# Altium integrated library NSC Interface.IntLib: 1288 symbols (part 18 of 45)
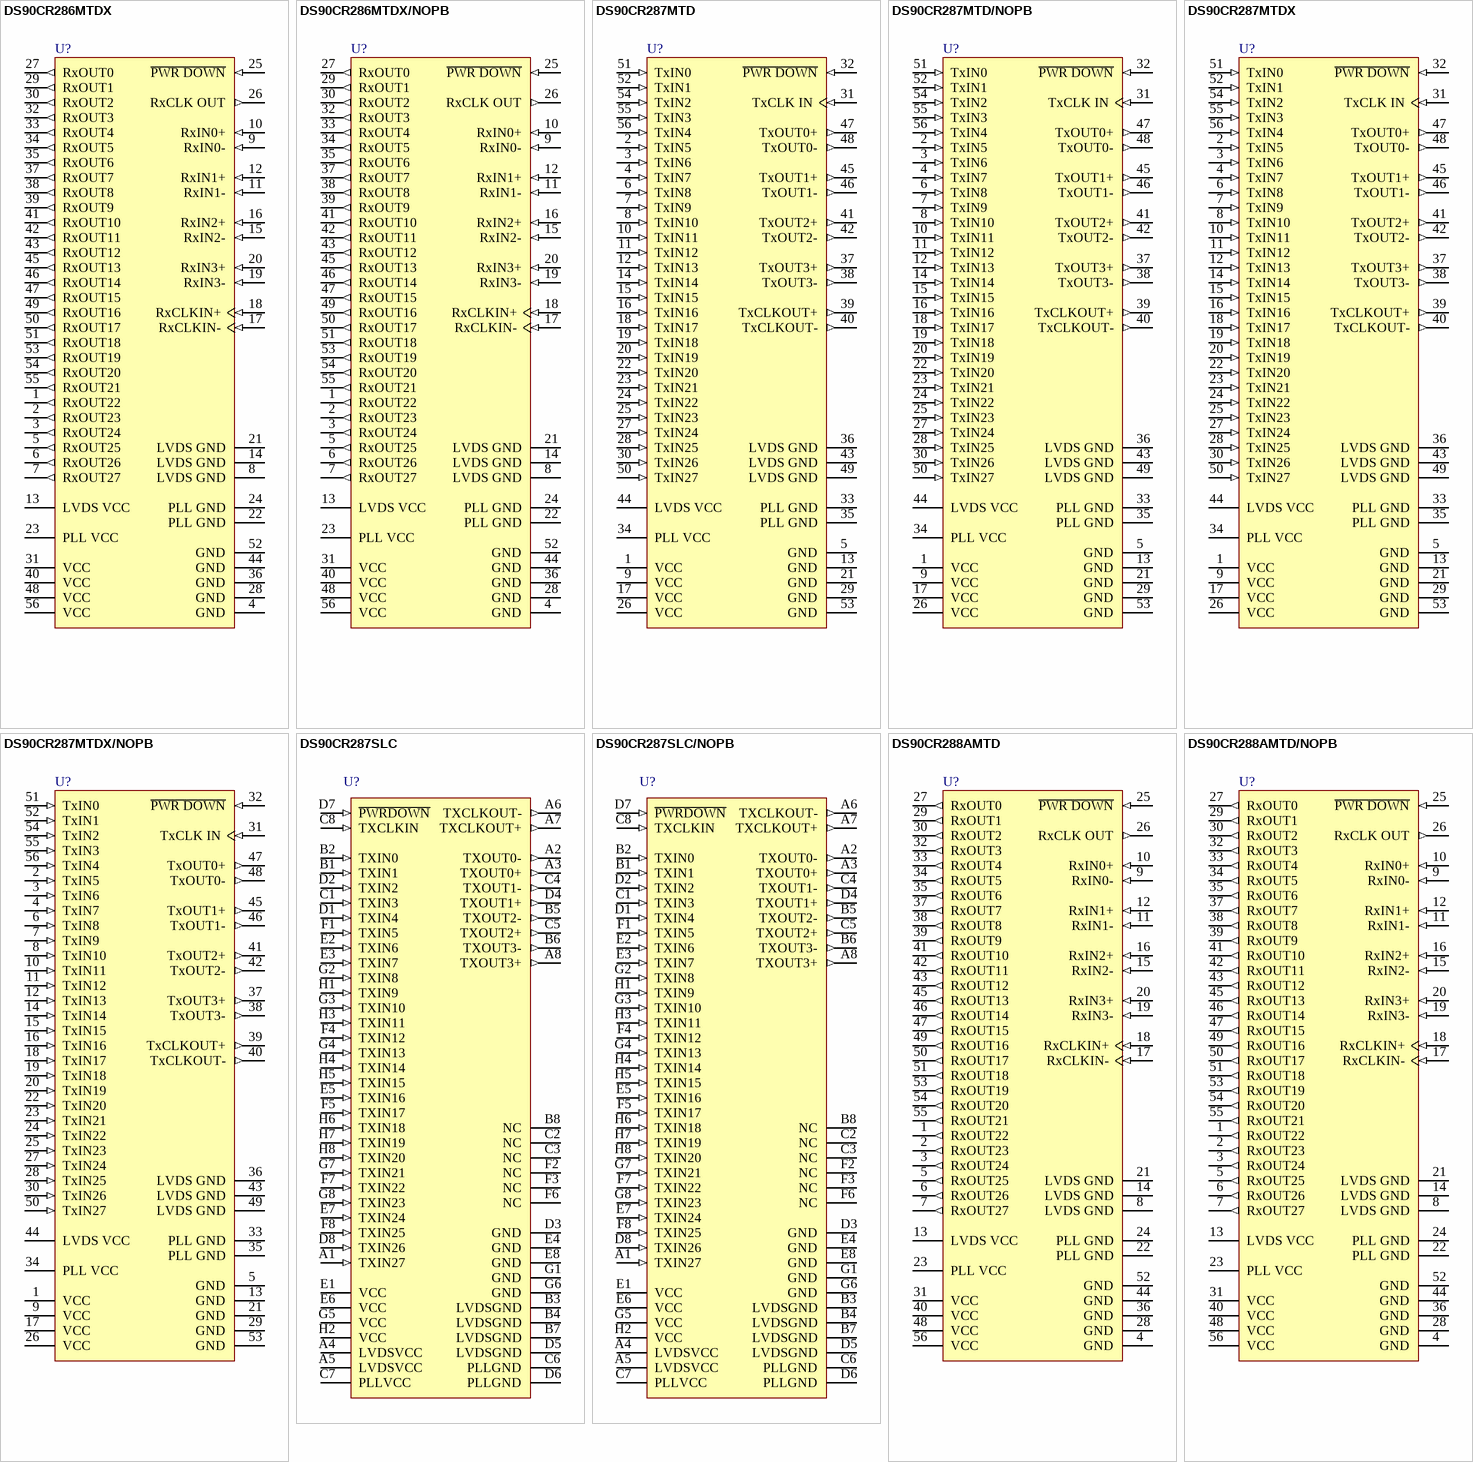
[diagram p129: symbols DS90CR286MTDX to DS90CR288AMTD/NOPB]

## DS90CR287SLC
designator U?
+3.3V Rising Edge Data Strobe LVDS 28-Bit Channel Link Transmitter - 85 MHz, 64-pin FBGA; PartNumber: DS90CR287SLC; Manufacturer: National Semiconductor; PackageTopMarking: NS2ZXYTTE#*DS90CR287*SLC*BBBBB; PowerWise: N; CompType: Interface IC; Published: 4-Dec-2008; DatasheetVersion: Jul-2004; PackageVersion: revC, Jan, 2003; PackageReference: SLC64A; Publisher: Altium Limited; PackageDescription: FBGA, Plastic, Laminated, 8 x 8 x 1.4mm Body, 64 Ball, 0.8mm Pitch; RoHS: N; PinCount: 64; ComponentLink1Description: DS90CR287 Datasheet; ComponentLink1URL: http://www.national.com/ds/DS/DS90CR287.pdf; ComponentLink2Description: DS90CR287 Web Page; ComponentLink2URL: http://www.national.com/pf/DS/DS90CR287.html; ComponentLink3Description: SLC64A Package Page; ComponentLink3URL: http://www.national.com/packaging/folders/slc64a.html
footprint SLC64A (BGA, 64-Leads, Body 8x8mm, Pitch 0.8mm)
pins: A1 TXIN27 (in), A2 TXOUT0- (out), A3 TXOUT0+ (out), A4 LVDSVCC (power), A5 LVDSVCC (power), A6 TXCLKOUT- (out), A7 TXCLKOUT+ (out), A8 TXOUT3+ (out), B1 TXIN1 (in), B2 TXIN0 (in), B3 LVDSGND (power), B4 LVDSGND (power), B5 TXOUT2- (out), B6 TXOUT3- (out), B7 LVDSGND (power), B8 NC, C1 TXIN3 (in), C2 NC, C3 NC, C4 TXOUT1- (out), C5 TXOUT2+ (out), C6 PLLGND (power), C7 PLLVCC (power), C8 TXCLKIN (in), D1 TXIN4 (in), D2 TXIN2 (in), D3 GND (power), D4 TXOUT1+ (out), D5 LVDSGND (power), D6 PLLGND (power), D7 ~{PWRDOWN} (in), D8 TXIN26 (in), E1 VCC (power), E2 TXIN6 (in), E3 TXIN7 (in), E4 GND (power), E5 TXIN16 (in), E6 VCC (power), E7 TXIN24 (in), E8 GND (power), F1 TXIN5 (in), F2 NC, F3 NC, F4 TXIN12 (in), F5 TXIN17 (in), F6 NC, F7 TXIN22 (in), F8 TXIN25 (in), G1 GND (power), G2 TXIN8 (in), G3 TXIN10 (in), G4 TXIN13 (in), G5 VCC (power), G6 GND (power), G7 TXIN21 (in), G8 TXIN23 (in), H1 TXIN9 (in), H2 VCC (power), H3 TXIN11 (in), H4 TXIN14 (in), H5 TXIN15 (in), H6 TXIN18 (in), H7 TXIN19 (in), H8 TXIN20 (in)

## DS90CR287SLC/NOPB
designator U?
+3.3V Rising Edge Data Strobe LVDS 28-Bit Channel Link Transmitter - 85 MHz, 64 pin FBGA; PartNumber: DS90CR287SLC/NOPB; Manufacturer: National Semiconductor; PackageTopMarking: NS2ZXYTTE#*DS90CR287*SLC*BBBBB; PowerWise: N; CompType: Interface IC; Published: 16-Nov-2010; DatasheetVersion: Jul-2004; PackageVersion: revC, Jan, 2003; PackageReference: SLC64A; Publisher: Altium Limited; PackageDescription: FBGA, Plastic, Laminated, 8 x 8 x 1.4mm Body, 64 Ball, 0.8mm Pitch; Supplier 1: Digi-Key; Supplier Part Number 1: DS90CR287SLC-ND; RoHS: Y; PinCount: 64; ComponentLink1Description: DS90CR287 Datasheet; ComponentLink1URL: http://www.national.com/ds/DS/DS90CR287.pdf; ComponentLink2Description: DS90CR287 Web Page; ComponentLink2URL: http://www.national.com/pf/DS/DS90CR287.html; ComponentLink3Description: SLC64A Package Page; ComponentLink3URL: http://www.national.com/packaging/folders/slc64a.html
footprint SLC64A (BGA, 64-Leads, Body 8x8mm, Pitch 0.8mm)
pins: A1 TXIN27 (in), A2 TXOUT0- (out), A3 TXOUT0+ (out), A4 LVDSVCC (power), A5 LVDSVCC (power), A6 TXCLKOUT- (out), A7 TXCLKOUT+ (out), A8 TXOUT3+ (out), B1 TXIN1 (in), B2 TXIN0 (in), B3 LVDSGND (power), B4 LVDSGND (power), B5 TXOUT2- (out), B6 TXOUT3- (out), B7 LVDSGND (power), B8 NC, C1 TXIN3 (in), C2 NC, C3 NC, C4 TXOUT1- (out), C5 TXOUT2+ (out), C6 PLLGND (power), C7 PLLVCC (power), C8 TXCLKIN (in), D1 TXIN4 (in), D2 TXIN2 (in), D3 GND (power), D4 TXOUT1+ (out), D5 LVDSGND (power), D6 PLLGND (power), D7 ~{PWRDOWN} (in), D8 TXIN26 (in), E1 VCC (power), E2 TXIN6 (in), E3 TXIN7 (in), E4 GND (power), E5 TXIN16 (in), E6 VCC (power), E7 TXIN24 (in), E8 GND (power), F1 TXIN5 (in), F2 NC, F3 NC, F4 TXIN12 (in), F5 TXIN17 (in), F6 NC, F7 TXIN22 (in), F8 TXIN25 (in), G1 GND (power), G2 TXIN8 (in), G3 TXIN10 (in), G4 TXIN13 (in), G5 VCC (power), G6 GND (power), G7 TXIN21 (in), G8 TXIN23 (in), H1 TXIN9 (in), H2 VCC (power), H3 TXIN11 (in), H4 TXIN14 (in), H5 TXIN15 (in), H6 TXIN18 (in), H7 TXIN19 (in), H8 TXIN20 (in)

## DS90CR288AMTD
designator U?
+3.3V Rising Edge Data Strobe LVDS 28-Bit Channel Link Receiver - 85 MHz, 56-pin TSSOP; PartNumber: DS90CR288AMTD; Manufacturer: National Semiconductor; PackageTopMarking: NSUZXYTTE#*DS90CR288AMTD*BBBBB; PowerWise: N; CompType: Interface IC; Published: 4-Dec-2008; DatasheetVersion: Jul-2004; PackageVersion: revD, Apr-2003; PackageReference: MTD56; Publisher: Altium Limited; PackageDescription: Molded TSSOP, Jedec, 14 x 6.1 x 0.9mm Body, 56 Lead, 0.50mm Pitch; Supplier 1: Farnell; Supplier Part Number 1: 7613702; RoHS: N; PinCount: 56; Code_IPC: TSSOP50P810-56; ComponentLink1Description: DS90CR288A Datasheet; ComponentLink1URL: http://www.national.com/ds/DS/DS90CR288A.pdf; ComponentLink2Description: DS90CR288A Web Page; ComponentLink2URL: http://www.national.com/pf/DS/DS90CR288A.html; ComponentLink3Description: MTD56 Package Page; ComponentLink3URL: http://www.national.com/packaging/folders/mtd56.html
footprint MTD56_N (TSSOP, 56-Leads, Body 14x6.1mm, Pitch 0.5mm, IPC Medium Density)
footprint MTD56_L (TSSOP, 56-Leads, Body 14x6.1mm, Pitch 0.5mm, IPC High Density)
footprint MTD56_M (TSSOP, 56-Leads, Body 14x6.1mm, Pitch 0.5mm, IPC Low Density)
pins: 1 RxOUT22 (out), 2 RxOUT23 (out), 3 RxOUT24 (out), 4 GND (power), 5 RxOUT25 (out), 6 RxOUT26 (out), 7 RxOUT27 (out), 8 LVDS GND (power), 9 RxIN0- (in), 10 RxIN0+ (in), 11 RxIN1- (in), 12 RxIN1+ (in), 13 LVDS VCC (power), 14 LVDS GND (power), 15 RxIN2- (in), 16 RxIN2+ (in), 17 RxCLKIN- (in), 18 RxCLKIN+ (in), 19 RxIN3- (in), 20 RxIN3+ (in), 21 LVDS GND (power), 22 PLL GND (power), 23 PLL VCC (power), 24 PLL GND (power), 25 ~{PWR DOWN} (in), 26 RxCLK OUT (out), 27 RxOUT0 (out), 28 GND (power), 29 RxOUT1 (out), 30 RxOUT2 (out), 31 VCC (power), 32 RxOUT3 (out), 33 RxOUT4 (out), 34 RxOUT5 (out), 35 RxOUT6 (out), 36 GND (power), 37 RxOUT7 (out), 38 RxOUT8 (out), 39 RxOUT9 (out), 40 VCC (power), 41 RxOUT10 (out), 42 RxOUT11 (out), 43 RxOUT12 (out), 44 GND (power), 45 RxOUT13 (out), 46 RxOUT14 (out), 47 RxOUT15 (out), 48 VCC (power), 49 RxOUT16 (out), 50 RxOUT17 (out), 51 RxOUT18 (out), 52 GND (power), 53 RxOUT19 (out), 54 RxOUT20 (out), 55 RxOUT21 (out), 56 VCC (power)

## DS90CR288AMTD/NOPB
designator U?
+3.3V Rising Edge Data Strobe LVDS 28-Bit Channel Link Receiver - 85 MHz, 56-pin TSSOP, Pb-Free; PartNumber: DS90CR288AMTD/NOPB; Manufacturer: National Semiconductor; PackageTopMarking: NSUZXYTTE#*DS90CR288AMTD*BBBBB; PowerWise: N; CompType: Interface IC; Published: 1-Mar-2010; DatasheetVersion: Jul-2004; PackageVersion: revD, Apr-2003; PackageReference: MTD56; Publisher: Altium Limited; PackageDescription: Molded TSSOP, Jedec, 14 x 6.1 x 0.9mm Body, 56 Lead, 0.50mm Pitch; Supplier 1: Digi-Key; Supplier Part Number 1: DS90CR288AMTD-ND; Supplier 2: Farnell; Supplier Part Number 2: 1685539; RoHS: Y; PinCount: 56; Code_IPC: TSSOP50P810-56; ComponentLink1Description: DS90CR288A Datasheet; ComponentLink1URL: http://www.national.com/ds/DS/DS90CR288A.pdf; ComponentLink2Description: DS90CR288A Web Page; ComponentLink2URL: http://www.national.com/pf/DS/DS90CR288A.html; ComponentLink3Description: MTD56 Package Page; ComponentLink3URL: http://www.national.com/packaging/folders/mtd56.html
footprint MTD56_N (TSSOP, 56-Leads, Body 14x6.1mm, Pitch 0.5mm, IPC Medium Density)
footprint MTD56_L (TSSOP, 56-Leads, Body 14x6.1mm, Pitch 0.5mm, IPC High Density)
footprint MTD56_M (TSSOP, 56-Leads, Body 14x6.1mm, Pitch 0.5mm, IPC Low Density)
pins: 1 RxOUT22 (out), 2 RxOUT23 (out), 3 RxOUT24 (out), 4 GND (power), 5 RxOUT25 (out), 6 RxOUT26 (out), 7 RxOUT27 (out), 8 LVDS GND (power), 9 RxIN0- (in), 10 RxIN0+ (in), 11 RxIN1- (in), 12 RxIN1+ (in), 13 LVDS VCC (power), 14 LVDS GND (power), 15 RxIN2- (in), 16 RxIN2+ (in), 17 RxCLKIN- (in), 18 RxCLKIN+ (in), 19 RxIN3- (in), 20 RxIN3+ (in), 21 LVDS GND (power), 22 PLL GND (power), 23 PLL VCC (power), 24 PLL GND (power), 25 ~{PWR DOWN} (in), 26 RxCLK OUT (out), 27 RxOUT0 (out), 28 GND (power), 29 RxOUT1 (out), 30 RxOUT2 (out), 31 VCC (power), 32 RxOUT3 (out), 33 RxOUT4 (out), 34 RxOUT5 (out), 35 RxOUT6 (out), 36 GND (power), 37 RxOUT7 (out), 38 RxOUT8 (out), 39 RxOUT9 (out), 40 VCC (power), 41 RxOUT10 (out), 42 RxOUT11 (out), 43 RxOUT12 (out), 44 GND (power), 45 RxOUT13 (out), 46 RxOUT14 (out), 47 RxOUT15 (out), 48 VCC (power), 49 RxOUT16 (out), 50 RxOUT17 (out), 51 RxOUT18 (out), 52 GND (power), 53 RxOUT19 (out), 54 RxOUT20 (out), 55 RxOUT21 (out), 56 VCC (power)

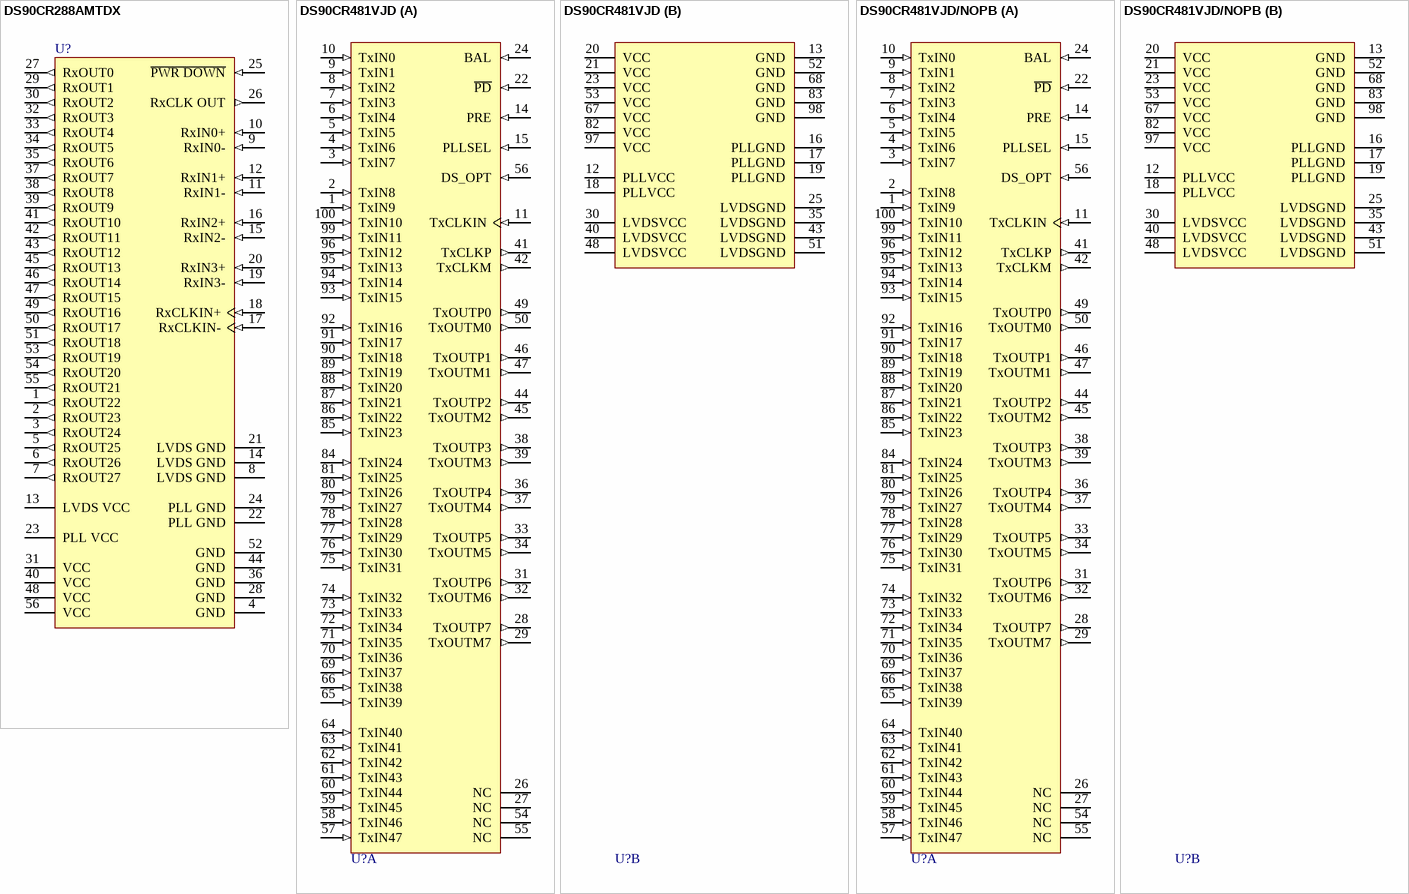
[diagram p45: symbols DS90CR288AMTDX to DS90CR481VJD/NOPB]

## DS90CR288AMTDX
designator U?
+3.3V Rising Edge Data Strobe LVDS 28-Bit Channel Link Receiver - 85 MHz, 56-pin TSSOP; PartNumber: DS90CR288AMTDX; Manufacturer: National Semiconductor; PackageTopMarking: NSUZXYTTE#*DS90CR288AMTD*BBBBB; PowerWise: N; CompType: Interface IC; Published: 1-Mar-2010; DatasheetVersion: Jul-2004; PackageVersion: revD, Apr-2003; PackageReference: MTD56; Publisher: Altium Limited; PackageDescription: Molded TSSOP, Jedec, 14 x 6.1 x 0.9mm Body, 56 Lead, 0.50mm Pitch; RoHS: N; PinCount: 56; Code_IPC: TSSOP50P810-56; ComponentLink1Description: DS90CR288A Datasheet; ComponentLink1URL: http://www.national.com/ds/DS/DS90CR288A.pdf; ComponentLink2Description: DS90CR288A Web Page; ComponentLink2URL: http://www.national.com/pf/DS/DS90CR288A.html; ComponentLink3Description: MTD56 Package Page; ComponentLink3URL: http://www.national.com/packaging/folders/mtd56.html
footprint MTD56_N (TSSOP, 56-Leads, Body 14x6.1mm, Pitch 0.5mm, IPC Medium Density)
footprint MTD56_L (TSSOP, 56-Leads, Body 14x6.1mm, Pitch 0.5mm, IPC High Density)
footprint MTD56_M (TSSOP, 56-Leads, Body 14x6.1mm, Pitch 0.5mm, IPC Low Density)
pins: 1 RxOUT22 (out), 2 RxOUT23 (out), 3 RxOUT24 (out), 4 GND (power), 5 RxOUT25 (out), 6 RxOUT26 (out), 7 RxOUT27 (out), 8 LVDS GND (power), 9 RxIN0- (in), 10 RxIN0+ (in), 11 RxIN1- (in), 12 RxIN1+ (in), 13 LVDS VCC (power), 14 LVDS GND (power), 15 RxIN2- (in), 16 RxIN2+ (in), 17 RxCLKIN- (in), 18 RxCLKIN+ (in), 19 RxIN3- (in), 20 RxIN3+ (in), 21 LVDS GND (power), 22 PLL GND (power), 23 PLL VCC (power), 24 PLL GND (power), 25 ~{PWR DOWN} (in), 26 RxCLK OUT (out), 27 RxOUT0 (out), 28 GND (power), 29 RxOUT1 (out), 30 RxOUT2 (out), 31 VCC (power), 32 RxOUT3 (out), 33 RxOUT4 (out), 34 RxOUT5 (out), 35 RxOUT6 (out), 36 GND (power), 37 RxOUT7 (out), 38 RxOUT8 (out), 39 RxOUT9 (out), 40 VCC (power), 41 RxOUT10 (out), 42 RxOUT11 (out), 43 RxOUT12 (out), 44 GND (power), 45 RxOUT13 (out), 46 RxOUT14 (out), 47 RxOUT15 (out), 48 VCC (power), 49 RxOUT16 (out), 50 RxOUT17 (out), 51 RxOUT18 (out), 52 GND (power), 53 RxOUT19 (out), 54 RxOUT20 (out), 55 RxOUT21 (out), 56 VCC (power)

## DS90CR481VJD
designator U?
48-Bit LVDS Channel Link Serializer - 65 - 112 MHz, 100-pin TQFP; PartNumber: DS90CR481VJD; Manufacturer: National Semiconductor; PackageTopMarking: NS2ZXYYTTE#*DS90CR481VJD*BBBBB; PowerWise: N; CompType: Interface IC; Published: 4-Dec-2008; DatasheetVersion: Jan-2006; PackageVersion: revC, May-2004; PackageReference: VJD100A; Publisher: Altium Limited; PackageDescription: TQFP, Jedec, Metric, 14 x 14 x 1.0mm, 100 Lead; RoHS: N; PinCount: 100; Code_JEDEC: MS-026-AED; ComponentLink1Description: DS90CR481 Datasheet; ComponentLink1URL: http://www.national.com/ds/DS/DS90CR481.pdf; ComponentLink2Description: DS90CR481 Web Page; ComponentLink2URL: http://www.national.com/pf/DS/DS90CR481.html; ComponentLink3Description: VJD100A Package Page; ComponentLink3URL: http://www.national.com/packaging/folders/vjd100a.html
footprint VJD100A_N (Thin QFP, 100-Leads, Body 14x14mm, Pitch 0.5mm, IPC Medium Density)
footprint VJD100A_L (Thin QFP, 100-Leads, Body 14x14mm, Pitch 0.5mm, IPC High Density)
footprint VJD100A_M (Thin QFP, 100-Leads, Body 14x14mm, Pitch 0.5mm, IPC Low Density)
part A pins: 1 TxIN9 (in), 2 TxIN8 (in), 3 TxIN7 (in), 4 TxIN6 (in), 5 TxIN5 (in), 6 TxIN4 (in), 7 TxIN3 (in), 8 TxIN2 (in), 9 TxIN1 (in), 10 TxIN0 (in), 11 TxCLKIN (in), 14 PRE (in), 15 PLLSEL (in), 22 ~{PD} (in), 24 BAL (in), 26 NC, 27 NC, 28 TxOUTP7 (out), 29 TxOUTM7 (out), 31 TxOUTP6 (out), 32 TxOUTM6 (out), 33 TxOUTP5 (out), 34 TxOUTM5 (out), 36 TxOUTP4 (out), 37 TxOUTM4 (out), 38 TxOUTP3 (out), 39 TxOUTM3 (out), 41 TxCLKP (out), 42 TxCLKM (out), 44 TxOUTP2 (out), 45 TxOUTM2 (out), 46 TxOUTP1 (out), 47 TxOUTM1 (out), 49 TxOUTP0 (out), 50 TxOUTM0 (out), 54 NC, 55 NC, 56 DS_OPT (in), 57 TxIN47 (in), 58 TxIN46 (in), 59 TxIN45 (in), 60 TxIN44 (in), 61 TxIN43 (in), 62 TxIN42 (in), 63 TxIN41 (in), 64 TxIN40 (in), 65 TxIN39 (in), 66 TxIN38 (in), 69 TxIN37 (in), 70 TxIN36 (in), 71 TxIN35 (in), 72 TxIN34 (in), 73 TxIN33 (in), 74 TxIN32 (in), 75 TxIN31 (in), 76 TxIN30 (in), 77 TxIN29 (in), 78 TxIN28 (in), 79 TxIN27 (in), 80 TxIN26 (in), 81 TxIN25 (in), 84 TxIN24 (in), 85 TxIN23 (in), 86 TxIN22 (in), 87 TxIN21 (in), 88 TxIN20 (in), 89 TxIN19 (in), 90 TxIN18 (in), 91 TxIN17 (in), 92 TxIN16 (in), 93 TxIN15 (in), 94 TxIN14 (in), 95 TxIN13 (in), 96 TxIN12 (in), 99 TxIN11 (in), 100 TxIN10 (in)
part B pins: 12 PLLVCC (power), 13 GND (power), 16 PLLGND (power), 17 PLLGND (power), 18 PLLVCC (power), 19 PLLGND (power), 20 VCC (power), 21 VCC (power), 23 VCC (power), 25 LVDSGND (power), 30 LVDSVCC (power), 35 LVDSGND (power), 40 LVDSVCC (power), 43 LVDSGND (power), 48 LVDSVCC (power), 51 LVDSGND (power), 52 GND (power), 53 VCC (power), 67 VCC (power), 68 GND (power), 82 VCC (power), 83 GND (power), 97 VCC (power), 98 GND (power)

## DS90CR481VJD/NOPB
designator U?
48-Bit LVDS Channel Link Serializer - 65 - 112 MHz, 100-pin TQFP, Pb-Free; PartNumber: DS90CR481VJD/NOPB; Manufacturer: National Semiconductor; PackageTopMarking: NS2ZXYYTTE#*DS90CR481VJD*BBBBB; PowerWise: N; CompType: Interface IC; Published: 1-Mar-2010; DatasheetVersion: Jan-2006; PackageVersion: revC, May-2004; PackageReference: VJD100A; Publisher: Altium Limited; PackageDescription: TQFP, Jedec, Metric, 14 x 14 x 1.0mm, 100 Lead; Supplier 1: Digi-Key; Supplier Part Number 1: DS90CR481VJD-ND; RoHS: Y; PinCount: 100; Code_JEDEC: MS-026-AED; ComponentLink1Description: DS90CR481 Datasheet; ComponentLink1URL: http://www.national.com/ds/DS/DS90CR481.pdf; ComponentLink2Description: DS90CR481 Web Page; ComponentLink2URL: http://www.national.com/pf/DS/DS90CR481.html; ComponentLink3Description: VJD100A Package Page; ComponentLink3URL: http://www.national.com/packaging/folders/vjd100a.html
footprint VJD100A_N (Thin QFP, 100-Leads, Body 14x14mm, Pitch 0.5mm, IPC Medium Density)
footprint VJD100A_L (Thin QFP, 100-Leads, Body 14x14mm, Pitch 0.5mm, IPC High Density)
footprint VJD100A_M (Thin QFP, 100-Leads, Body 14x14mm, Pitch 0.5mm, IPC Low Density)
part A pins: 1 TxIN9 (in), 2 TxIN8 (in), 3 TxIN7 (in), 4 TxIN6 (in), 5 TxIN5 (in), 6 TxIN4 (in), 7 TxIN3 (in), 8 TxIN2 (in), 9 TxIN1 (in), 10 TxIN0 (in), 11 TxCLKIN (in), 14 PRE (in), 15 PLLSEL (in), 22 ~{PD} (in), 24 BAL (in), 26 NC, 27 NC, 28 TxOUTP7 (out), 29 TxOUTM7 (out), 31 TxOUTP6 (out), 32 TxOUTM6 (out), 33 TxOUTP5 (out), 34 TxOUTM5 (out), 36 TxOUTP4 (out), 37 TxOUTM4 (out), 38 TxOUTP3 (out), 39 TxOUTM3 (out), 41 TxCLKP (out), 42 TxCLKM (out), 44 TxOUTP2 (out), 45 TxOUTM2 (out), 46 TxOUTP1 (out), 47 TxOUTM1 (out), 49 TxOUTP0 (out), 50 TxOUTM0 (out), 54 NC, 55 NC, 56 DS_OPT (in), 57 TxIN47 (in), 58 TxIN46 (in), 59 TxIN45 (in), 60 TxIN44 (in), 61 TxIN43 (in), 62 TxIN42 (in), 63 TxIN41 (in), 64 TxIN40 (in), 65 TxIN39 (in), 66 TxIN38 (in), 69 TxIN37 (in), 70 TxIN36 (in), 71 TxIN35 (in), 72 TxIN34 (in), 73 TxIN33 (in), 74 TxIN32 (in), 75 TxIN31 (in), 76 TxIN30 (in), 77 TxIN29 (in), 78 TxIN28 (in), 79 TxIN27 (in), 80 TxIN26 (in), 81 TxIN25 (in), 84 TxIN24 (in), 85 TxIN23 (in), 86 TxIN22 (in), 87 TxIN21 (in), 88 TxIN20 (in), 89 TxIN19 (in), 90 TxIN18 (in), 91 TxIN17 (in), 92 TxIN16 (in), 93 TxIN15 (in), 94 TxIN14 (in), 95 TxIN13 (in), 96 TxIN12 (in), 99 TxIN11 (in), 100 TxIN10 (in)
part B pins: 12 PLLVCC (power), 13 GND (power), 16 PLLGND (power), 17 PLLGND (power), 18 PLLVCC (power), 19 PLLGND (power), 20 VCC (power), 21 VCC (power), 23 VCC (power), 25 LVDSGND (power), 30 LVDSVCC (power), 35 LVDSGND (power), 40 LVDSVCC (power), 43 LVDSGND (power), 48 LVDSVCC (power), 51 LVDSGND (power), 52 GND (power), 53 VCC (power), 67 VCC (power), 68 GND (power), 82 VCC (power), 83 GND (power), 97 VCC (power), 98 GND (power)

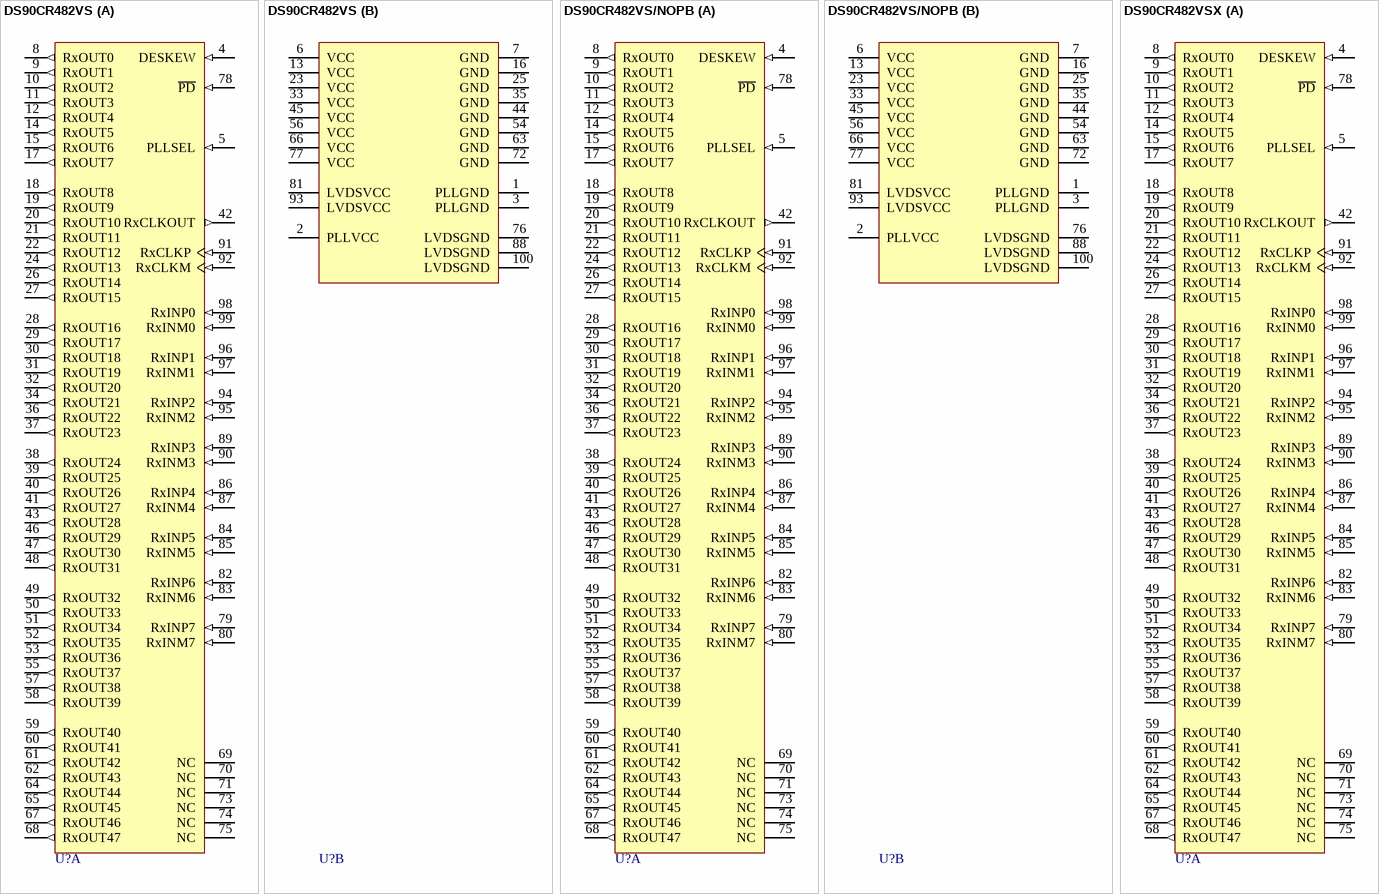
[diagram p46: symbols DS90CR482VS to DS90CR482VSX]

## DS90CR482VS
designator U?
48-Bit LVDS Channel Link Deserializer - 65 - 112 MHz, 100-pin TQFP; PartNumber: DS90CR482VS; Manufacturer: National Semiconductor; PackageTopMarking: NS2ZXYYTTE#*DS90CR482VS*BBBBB; PowerWise: N; CompType: Interface IC; Published: 4-Dec-2008; DatasheetVersion: Jan-2006; PackageVersion: revC, May-2004; PackageReference: VJD100A; Publisher: Altium Limited; PackageDescription: TQFP, Jedec, Metric, 14 x 14 x 1.0mm, 100 Lead; RoHS: N; PinCount: 100; Code_JEDEC: MS-026-AED; ComponentLink1Description: DS90CR482 Datasheet; ComponentLink1URL: http://www.national.com/ds/DS/DS90CR482.pdf; ComponentLink2Description: DS90CR482 Web Page; ComponentLink2URL: http://www.national.com/pf/DS/DS90CR482.html; ComponentLink3Description: VJD100A Package Page; ComponentLink3URL: http://www.national.com/packaging/folders/vjd100a.html
footprint VJD100A_N (Thin QFP, 100-Leads, Body 14x14mm, Pitch 0.5mm, IPC Medium Density)
footprint VJD100A_L (Thin QFP, 100-Leads, Body 14x14mm, Pitch 0.5mm, IPC High Density)
footprint VJD100A_M (Thin QFP, 100-Leads, Body 14x14mm, Pitch 0.5mm, IPC Low Density)
part A pins: 4 DESKEW (in), 5 PLLSEL (in), 8 RxOUT0 (out), 9 RxOUT1 (out), 10 RxOUT2 (out), 11 RxOUT3 (out), 12 RxOUT4 (out), 14 RxOUT5 (out), 15 RxOUT6 (out), 17 RxOUT7 (out), 18 RxOUT8 (out), 19 RxOUT9 (out), 20 RxOUT10 (out), 21 RxOUT11 (out), 22 RxOUT12 (out), 24 RxOUT13 (out), 26 RxOUT14 (out), 27 RxOUT15 (out), 28 RxOUT16 (out), 29 RxOUT17 (out), 30 RxOUT18 (out), 31 RxOUT19 (out), 32 RxOUT20 (out), 34 RxOUT21 (out), 36 RxOUT22 (out), 37 RxOUT23 (out), 38 RxOUT24 (out), 39 RxOUT25 (out), 40 RxOUT26 (out), 41 RxOUT27 (out), 42 RxCLKOUT (out), 43 RxOUT28 (out), 46 RxOUT29 (out), 47 RxOUT30 (out), 48 RxOUT31 (out), 49 RxOUT32 (out), 50 RxOUT33 (out), 51 RxOUT34 (out), 52 RxOUT35 (out), 53 RxOUT36 (out), 55 RxOUT37 (out), 57 RxOUT38 (out), 58 RxOUT39 (out), 59 RxOUT40 (out), 60 RxOUT41 (out), 61 RxOUT42 (out), 62 RxOUT43 (out), 64 RxOUT44 (out), 65 RxOUT45 (out), 67 RxOUT46 (out), 68 RxOUT47 (out), 69 NC, 70 NC, 71 NC, 73 NC, 74 NC, 75 NC, 78 ~{PD} (in), 79 RxINP7 (in), 80 RxINM7 (in), 82 RxINP6 (in), 83 RxINM6 (in), 84 RxINP5 (in), 85 RxINM5 (in), 86 RxINP4 (in), 87 RxINM4 (in), 89 RxINP3 (in), 90 RxINM3 (in), 91 RxCLKP (in), 92 RxCLKM (in), 94 RxINP2 (in), 95 RxINM2 (in), 96 RxINP1 (in), 97 RxINM1 (in), 98 RxINP0 (in), 99 RxINM0 (in)
part B pins: 1 PLLGND (power), 2 PLLVCC (power), 3 PLLGND (power), 6 VCC (power), 7 GND (power), 13 VCC (power), 16 GND (power), 23 VCC (power), 25 GND (power), 33 VCC (power), 35 GND (power), 44 GND (power), 45 VCC (power), 54 GND (power), 56 VCC (power), 63 GND (power), 66 VCC (power), 72 GND (power), 76 LVDSGND (power), 77 VCC (power), 81 LVDSVCC (power), 88 LVDSGND (power), 93 LVDSVCC (power), 100 LVDSGND (power)

## DS90CR482VS/NOPB
designator U?
48-Bit LVDS Channel Link Deserializer - 65 - 112 MHz, 100-pin TQFP, Pb-Free; PartNumber: DS90CR482VS/NOPB; Manufacturer: National Semiconductor; PackageTopMarking: NS2ZXYYTTE#*DS90CR482VS*BBBBB; PowerWise: N; CompType: Interface IC; Published: 1-Mar-2010; DatasheetVersion: Jan-2006; PackageVersion: revC, May-2004; PackageReference: VJD100A; Publisher: Altium Limited; PackageDescription: TQFP, Jedec, Metric, 14 x 14 x 1.0mm, 100 Lead; Supplier 1: Digi-Key; Supplier Part Number 1: DS90CR482VS-ND; RoHS: Y; PinCount: 100; Code_JEDEC: MS-026-AED; ComponentLink1Description: DS90CR482 Datasheet; ComponentLink1URL: http://www.national.com/ds/DS/DS90CR482.pdf; ComponentLink2Description: DS90CR482 Web Page; ComponentLink2URL: http://www.national.com/pf/DS/DS90CR482.html; ComponentLink3Description: VJD100A Package Page; ComponentLink3URL: http://www.national.com/packaging/folders/vjd100a.html
footprint VJD100A_N (Thin QFP, 100-Leads, Body 14x14mm, Pitch 0.5mm, IPC Medium Density)
footprint VJD100A_L (Thin QFP, 100-Leads, Body 14x14mm, Pitch 0.5mm, IPC High Density)
footprint VJD100A_M (Thin QFP, 100-Leads, Body 14x14mm, Pitch 0.5mm, IPC Low Density)
part A pins: 4 DESKEW (in), 5 PLLSEL (in), 8 RxOUT0 (out), 9 RxOUT1 (out), 10 RxOUT2 (out), 11 RxOUT3 (out), 12 RxOUT4 (out), 14 RxOUT5 (out), 15 RxOUT6 (out), 17 RxOUT7 (out), 18 RxOUT8 (out), 19 RxOUT9 (out), 20 RxOUT10 (out), 21 RxOUT11 (out), 22 RxOUT12 (out), 24 RxOUT13 (out), 26 RxOUT14 (out), 27 RxOUT15 (out), 28 RxOUT16 (out), 29 RxOUT17 (out), 30 RxOUT18 (out), 31 RxOUT19 (out), 32 RxOUT20 (out), 34 RxOUT21 (out), 36 RxOUT22 (out), 37 RxOUT23 (out), 38 RxOUT24 (out), 39 RxOUT25 (out), 40 RxOUT26 (out), 41 RxOUT27 (out), 42 RxCLKOUT (out), 43 RxOUT28 (out), 46 RxOUT29 (out), 47 RxOUT30 (out), 48 RxOUT31 (out), 49 RxOUT32 (out), 50 RxOUT33 (out), 51 RxOUT34 (out), 52 RxOUT35 (out), 53 RxOUT36 (out), 55 RxOUT37 (out), 57 RxOUT38 (out), 58 RxOUT39 (out), 59 RxOUT40 (out), 60 RxOUT41 (out), 61 RxOUT42 (out), 62 RxOUT43 (out), 64 RxOUT44 (out), 65 RxOUT45 (out), 67 RxOUT46 (out), 68 RxOUT47 (out), 69 NC, 70 NC, 71 NC, 73 NC, 74 NC, 75 NC, 78 ~{PD} (in), 79 RxINP7 (in), 80 RxINM7 (in), 82 RxINP6 (in), 83 RxINM6 (in), 84 RxINP5 (in), 85 RxINM5 (in), 86 RxINP4 (in), 87 RxINM4 (in), 89 RxINP3 (in), 90 RxINM3 (in), 91 RxCLKP (in), 92 RxCLKM (in), 94 RxINP2 (in), 95 RxINM2 (in), 96 RxINP1 (in), 97 RxINM1 (in), 98 RxINP0 (in), 99 RxINM0 (in)
part B pins: 1 PLLGND (power), 2 PLLVCC (power), 3 PLLGND (power), 6 VCC (power), 7 GND (power), 13 VCC (power), 16 GND (power), 23 VCC (power), 25 GND (power), 33 VCC (power), 35 GND (power), 44 GND (power), 45 VCC (power), 54 GND (power), 56 VCC (power), 63 GND (power), 66 VCC (power), 72 GND (power), 76 LVDSGND (power), 77 VCC (power), 81 LVDSVCC (power), 88 LVDSGND (power), 93 LVDSVCC (power), 100 LVDSGND (power)

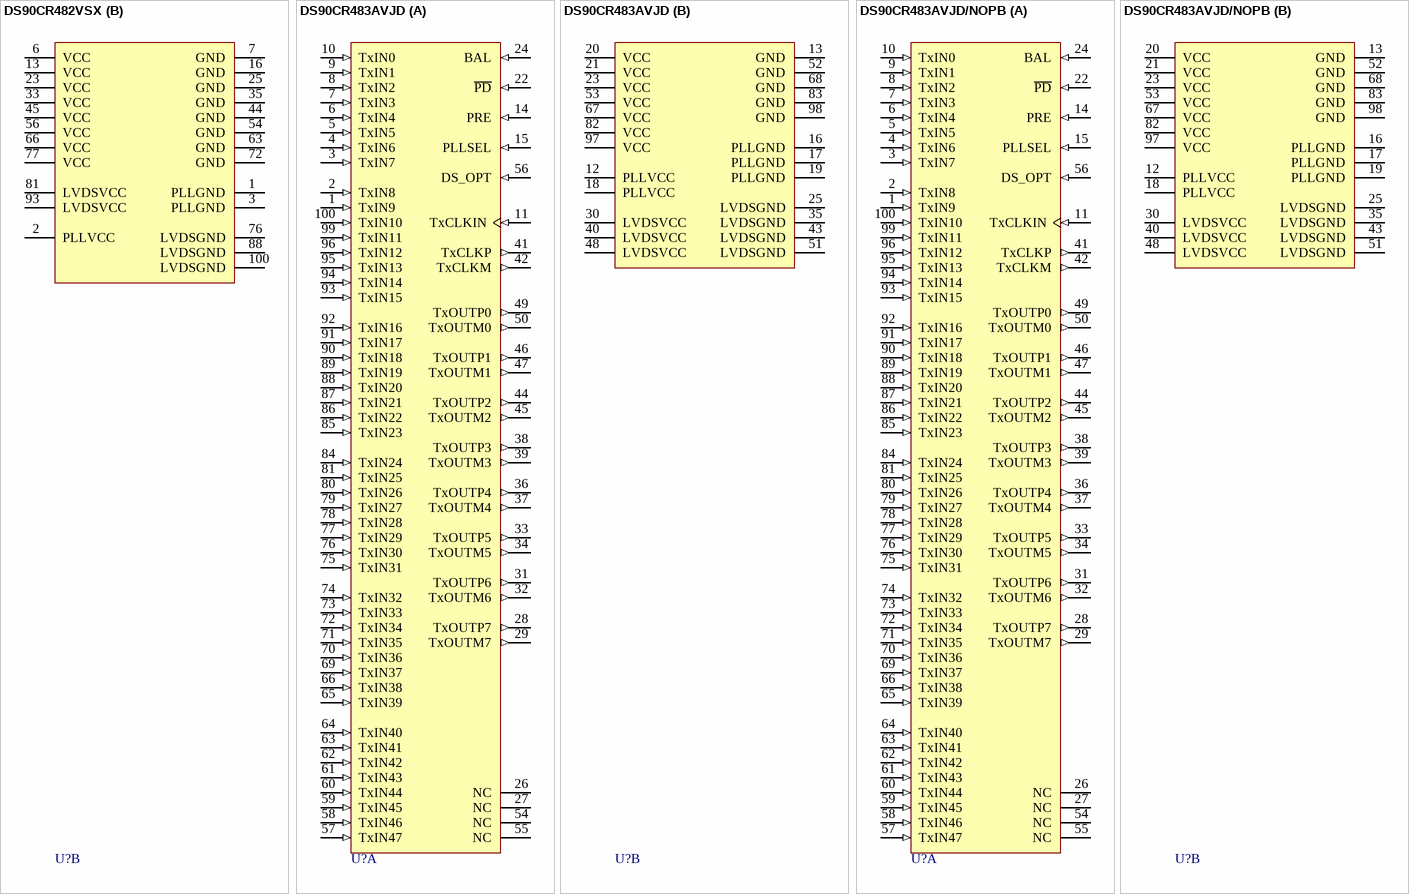
[diagram p47: symbols DS90CR482VSX to DS90CR483AVJD/NOPB]

## DS90CR482VSX
designator U?
48-Bit LVDS Channel Link Deserializer - 65 - 112 MHz, 100-pin TQFP; PartNumber: DS90CR482VSX; Manufacturer: National Semiconductor; PackageTopMarking: NS2ZXYYTTE#*DS90CR482VS*BBBBB; PowerWise: N; CompType: Interface IC; Published: 1-Mar-2010; DatasheetVersion: Jan-2006; PackageVersion: revC, May-2004; PackageReference: VJD100A; Publisher: Altium Limited; PackageDescription: TQFP, Jedec, Metric, 14 x 14 x 1.0mm, 100 Lead; RoHS: N; PinCount: 100; Code_JEDEC: MS-026-AED; ComponentLink1Description: DS90CR482 Datasheet; ComponentLink1URL: http://www.national.com/ds/DS/DS90CR482.pdf; ComponentLink2Description: DS90CR482 Web Page; ComponentLink2URL: http://www.national.com/pf/DS/DS90CR482.html; ComponentLink3Description: VJD100A Package Page; ComponentLink3URL: http://www.national.com/packaging/folders/vjd100a.html
footprint VJD100A_N (Thin QFP, 100-Leads, Body 14x14mm, Pitch 0.5mm, IPC Medium Density)
footprint VJD100A_L (Thin QFP, 100-Leads, Body 14x14mm, Pitch 0.5mm, IPC High Density)
footprint VJD100A_M (Thin QFP, 100-Leads, Body 14x14mm, Pitch 0.5mm, IPC Low Density)
part A pins: 4 DESKEW (in), 5 PLLSEL (in), 8 RxOUT0 (out), 9 RxOUT1 (out), 10 RxOUT2 (out), 11 RxOUT3 (out), 12 RxOUT4 (out), 14 RxOUT5 (out), 15 RxOUT6 (out), 17 RxOUT7 (out), 18 RxOUT8 (out), 19 RxOUT9 (out), 20 RxOUT10 (out), 21 RxOUT11 (out), 22 RxOUT12 (out), 24 RxOUT13 (out), 26 RxOUT14 (out), 27 RxOUT15 (out), 28 RxOUT16 (out), 29 RxOUT17 (out), 30 RxOUT18 (out), 31 RxOUT19 (out), 32 RxOUT20 (out), 34 RxOUT21 (out), 36 RxOUT22 (out), 37 RxOUT23 (out), 38 RxOUT24 (out), 39 RxOUT25 (out), 40 RxOUT26 (out), 41 RxOUT27 (out), 42 RxCLKOUT (out), 43 RxOUT28 (out), 46 RxOUT29 (out), 47 RxOUT30 (out), 48 RxOUT31 (out), 49 RxOUT32 (out), 50 RxOUT33 (out), 51 RxOUT34 (out), 52 RxOUT35 (out), 53 RxOUT36 (out), 55 RxOUT37 (out), 57 RxOUT38 (out), 58 RxOUT39 (out), 59 RxOUT40 (out), 60 RxOUT41 (out), 61 RxOUT42 (out), 62 RxOUT43 (out), 64 RxOUT44 (out), 65 RxOUT45 (out), 67 RxOUT46 (out), 68 RxOUT47 (out), 69 NC, 70 NC, 71 NC, 73 NC, 74 NC, 75 NC, 78 ~{PD} (in), 79 RxINP7 (in), 80 RxINM7 (in), 82 RxINP6 (in), 83 RxINM6 (in), 84 RxINP5 (in), 85 RxINM5 (in), 86 RxINP4 (in), 87 RxINM4 (in), 89 RxINP3 (in), 90 RxINM3 (in), 91 RxCLKP (in), 92 RxCLKM (in), 94 RxINP2 (in), 95 RxINM2 (in), 96 RxINP1 (in), 97 RxINM1 (in), 98 RxINP0 (in), 99 RxINM0 (in)
part B pins: 1 PLLGND (power), 2 PLLVCC (power), 3 PLLGND (power), 6 VCC (power), 7 GND (power), 13 VCC (power), 16 GND (power), 23 VCC (power), 25 GND (power), 33 VCC (power), 35 GND (power), 44 GND (power), 45 VCC (power), 54 GND (power), 56 VCC (power), 63 GND (power), 66 VCC (power), 72 GND (power), 76 LVDSGND (power), 77 VCC (power), 81 LVDSVCC (power), 88 LVDSGND (power), 93 LVDSVCC (power), 100 LVDSGND (power)

## DS90CR483AVJD
designator U?
48-Bit LVDS Channel Link SER/DES - 33 - 112 MHz, 100-pin TQFP; PartNumber: DS90CR483AVJD; Manufacturer: National Semiconductor; PackageTopMarking: NS2ZXYYTT*DS90CR483AVJD*BBBBB; PowerWise: N; CompType: Interface IC; Published: 4-Dec-2008; DatasheetVersion: Apr-2008; PackageVersion: revC, May-2004; PackageReference: VJD100A; Publisher: Altium Limited; PackageDescription: TQFP, Jedec, Metric, 14 x 14 x 1.0mm, 100 Lead; RoHS: Y; PinCount: 100; Code_JEDEC: MS-026-AED; ComponentLink1Description: DS90CR483A Datasheet; ComponentLink1URL: http://www.national.com/ds/DS/DS90CR483A.pdf; ComponentLink2Description: DS90CR483A Web Page; ComponentLink2URL: http://www.national.com/pf/DS/DS90CR483A.html; ComponentLink3Description: VJD100A Package Page; ComponentLink3URL: http://www.national.com/packaging/folders/vjd100a.html
footprint VJD100A_N (Thin QFP, 100-Leads, Body 14x14mm, Pitch 0.5mm, IPC Medium Density)
footprint VJD100A_L (Thin QFP, 100-Leads, Body 14x14mm, Pitch 0.5mm, IPC High Density)
footprint VJD100A_M (Thin QFP, 100-Leads, Body 14x14mm, Pitch 0.5mm, IPC Low Density)
part A pins: 1 TxIN9 (in), 2 TxIN8 (in), 3 TxIN7 (in), 4 TxIN6 (in), 5 TxIN5 (in), 6 TxIN4 (in), 7 TxIN3 (in), 8 TxIN2 (in), 9 TxIN1 (in), 10 TxIN0 (in), 11 TxCLKIN (in), 14 PRE (in), 15 PLLSEL (in), 22 ~{PD} (in), 24 BAL (in), 26 NC, 27 NC, 28 TxOUTP7 (out), 29 TxOUTM7 (out), 31 TxOUTP6 (out), 32 TxOUTM6 (out), 33 TxOUTP5 (out), 34 TxOUTM5 (out), 36 TxOUTP4 (out), 37 TxOUTM4 (out), 38 TxOUTP3 (out), 39 TxOUTM3 (out), 41 TxCLKP (out), 42 TxCLKM (out), 44 TxOUTP2 (out), 45 TxOUTM2 (out), 46 TxOUTP1 (out), 47 TxOUTM1 (out), 49 TxOUTP0 (out), 50 TxOUTM0 (out), 54 NC, 55 NC, 56 DS_OPT (in), 57 TxIN47 (in), 58 TxIN46 (in), 59 TxIN45 (in), 60 TxIN44 (in), 61 TxIN43 (in), 62 TxIN42 (in), 63 TxIN41 (in), 64 TxIN40 (in), 65 TxIN39 (in), 66 TxIN38 (in), 69 TxIN37 (in), 70 TxIN36 (in), 71 TxIN35 (in), 72 TxIN34 (in), 73 TxIN33 (in), 74 TxIN32 (in), 75 TxIN31 (in), 76 TxIN30 (in), 77 TxIN29 (in), 78 TxIN28 (in), 79 TxIN27 (in), 80 TxIN26 (in), 81 TxIN25 (in), 84 TxIN24 (in), 85 TxIN23 (in), 86 TxIN22 (in), 87 TxIN21 (in), 88 TxIN20 (in), 89 TxIN19 (in), 90 TxIN18 (in), 91 TxIN17 (in), 92 TxIN16 (in), 93 TxIN15 (in), 94 TxIN14 (in), 95 TxIN13 (in), 96 TxIN12 (in), 99 TxIN11 (in), 100 TxIN10 (in)
part B pins: 12 PLLVCC (power), 13 GND (power), 16 PLLGND (power), 17 PLLGND (power), 18 PLLVCC (power), 19 PLLGND (power), 20 VCC (power), 21 VCC (power), 23 VCC (power), 25 LVDSGND (power), 30 LVDSVCC (power), 35 LVDSGND (power), 40 LVDSVCC (power), 43 LVDSGND (power), 48 LVDSVCC (power), 51 LVDSGND (power), 52 GND (power), 53 VCC (power), 67 VCC (power), 68 GND (power), 82 VCC (power), 83 GND (power), 97 VCC (power), 98 GND (power)

## DS90CR483AVJD/NOPB
designator U?
48-Bit LVDS Channel Link SER/DES - 33 - 112 MHz, 100-pin TQFP, Pb-Free; PartNumber: DS90CR483AVJD/NOPB; Manufacturer: National Semiconductor; PackageTopMarking: NS2ZXYYTTE#*DS90CR483AVJD*BBBBB; PowerWise: N; CompType: Interface IC; Published: 1-Mar-2010; DatasheetVersion: Apr-2008; PackageVersion: revC, May-2004; PackageReference: VJD100A; Publisher: Altium Limited; PackageDescription: TQFP, Jedec, Metric, 14 x 14 x 1.0mm, 100 Lead; Supplier 1: Digi-Key; Supplier Part Number 1: DS90CR483AVJD-ND; RoHS: Y; PinCount: 100; Code_JEDEC: MS-026-AED; ComponentLink1Description: DS90CR483A Datasheet; ComponentLink1URL: http://www.national.com/ds/DS/DS90CR483A.pdf; ComponentLink2Description: DS90CR483A Web Page; ComponentLink2URL: http://www.national.com/pf/DS/DS90CR483A.html; ComponentLink3Description: VJD100A Package Page; ComponentLink3URL: http://www.national.com/packaging/folders/vjd100a.html
footprint VJD100A_N (Thin QFP, 100-Leads, Body 14x14mm, Pitch 0.5mm, IPC Medium Density)
footprint VJD100A_L (Thin QFP, 100-Leads, Body 14x14mm, Pitch 0.5mm, IPC High Density)
footprint VJD100A_M (Thin QFP, 100-Leads, Body 14x14mm, Pitch 0.5mm, IPC Low Density)
part A pins: 1 TxIN9 (in), 2 TxIN8 (in), 3 TxIN7 (in), 4 TxIN6 (in), 5 TxIN5 (in), 6 TxIN4 (in), 7 TxIN3 (in), 8 TxIN2 (in), 9 TxIN1 (in), 10 TxIN0 (in), 11 TxCLKIN (in), 14 PRE (in), 15 PLLSEL (in), 22 ~{PD} (in), 24 BAL (in), 26 NC, 27 NC, 28 TxOUTP7 (out), 29 TxOUTM7 (out), 31 TxOUTP6 (out), 32 TxOUTM6 (out), 33 TxOUTP5 (out), 34 TxOUTM5 (out), 36 TxOUTP4 (out), 37 TxOUTM4 (out), 38 TxOUTP3 (out), 39 TxOUTM3 (out), 41 TxCLKP (out), 42 TxCLKM (out), 44 TxOUTP2 (out), 45 TxOUTM2 (out), 46 TxOUTP1 (out), 47 TxOUTM1 (out), 49 TxOUTP0 (out), 50 TxOUTM0 (out), 54 NC, 55 NC, 56 DS_OPT (in), 57 TxIN47 (in), 58 TxIN46 (in), 59 TxIN45 (in), 60 TxIN44 (in), 61 TxIN43 (in), 62 TxIN42 (in), 63 TxIN41 (in), 64 TxIN40 (in), 65 TxIN39 (in), 66 TxIN38 (in), 69 TxIN37 (in), 70 TxIN36 (in), 71 TxIN35 (in), 72 TxIN34 (in), 73 TxIN33 (in), 74 TxIN32 (in), 75 TxIN31 (in), 76 TxIN30 (in), 77 TxIN29 (in), 78 TxIN28 (in), 79 TxIN27 (in), 80 TxIN26 (in), 81 TxIN25 (in), 84 TxIN24 (in), 85 TxIN23 (in), 86 TxIN22 (in), 87 TxIN21 (in), 88 TxIN20 (in), 89 TxIN19 (in), 90 TxIN18 (in), 91 TxIN17 (in), 92 TxIN16 (in), 93 TxIN15 (in), 94 TxIN14 (in), 95 TxIN13 (in), 96 TxIN12 (in), 99 TxIN11 (in), 100 TxIN10 (in)
part B pins: 12 PLLVCC (power), 13 GND (power), 16 PLLGND (power), 17 PLLGND (power), 18 PLLVCC (power), 19 PLLGND (power), 20 VCC (power), 21 VCC (power), 23 VCC (power), 25 LVDSGND (power), 30 LVDSVCC (power), 35 LVDSGND (power), 40 LVDSVCC (power), 43 LVDSGND (power), 48 LVDSVCC (power), 51 LVDSGND (power), 52 GND (power), 53 VCC (power), 67 VCC (power), 68 GND (power), 82 VCC (power), 83 GND (power), 97 VCC (power), 98 GND (power)

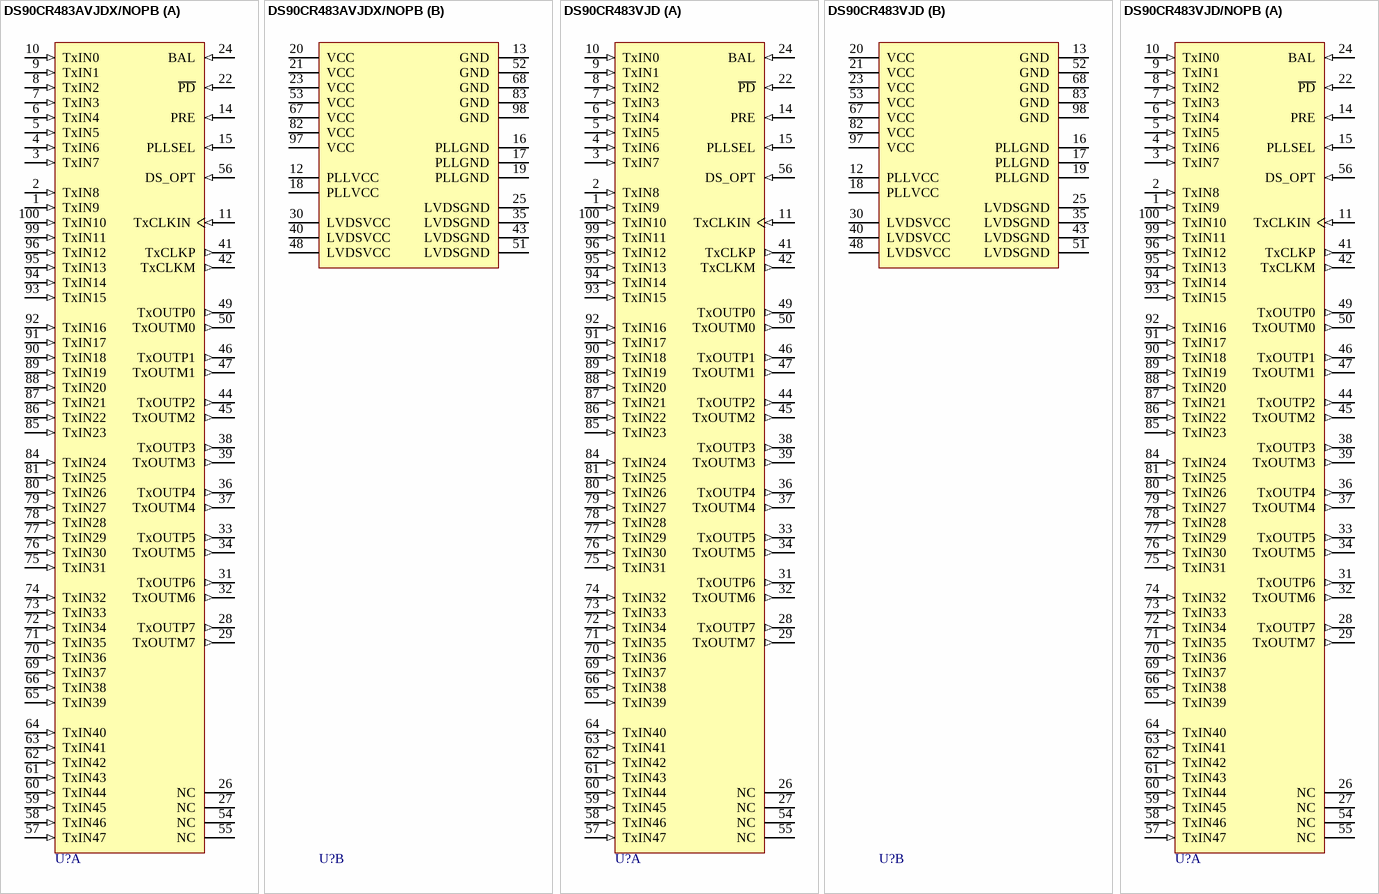
[diagram p48: symbols DS90CR483AVJDX/NOPB to DS90CR483VJD/NOPB]

## DS90CR483AVJDX/NOPB
designator U?
48-Bit LVDS Channel Link SER/DES - 33 - 112 MHz, 100-pin TQFP, Pb-Free; PartNumber: DS90CR483AVJDX/NOPB; Manufacturer: National Semiconductor; PackageTopMarking: NS2ZXYYTTE#*DS90CR483AVJD*BBBBB; PowerWise: N; CompType: Interface IC; Published: 1-Mar-2010; DatasheetVersion: Apr-2008; PackageVersion: revC, May-2004; PackageReference: VJD100A; Publisher: Altium Limited; PackageDescription: TQFP, Jedec, Metric, 14 x 14 x 1.0mm, 100 Lead; Supplier 1: Digi-Key; Supplier Part Number 1: DS90CR483AVJDX-ND; RoHS: Y; PinCount: 100; Code_JEDEC: MS-026-AED; ComponentLink1Description: DS90CR483A Datasheet; ComponentLink1URL: http://www.national.com/ds/DS/DS90CR483A.pdf; ComponentLink2Description: DS90CR483A Web Page; ComponentLink2URL: http://www.national.com/pf/DS/DS90CR483A.html; ComponentLink3Description: VJD100A Package Page; ComponentLink3URL: http://www.national.com/packaging/folders/vjd100a.html
footprint VJD100A_N (Thin QFP, 100-Leads, Body 14x14mm, Pitch 0.5mm, IPC Medium Density)
footprint VJD100A_L (Thin QFP, 100-Leads, Body 14x14mm, Pitch 0.5mm, IPC High Density)
footprint VJD100A_M (Thin QFP, 100-Leads, Body 14x14mm, Pitch 0.5mm, IPC Low Density)
part A pins: 1 TxIN9 (in), 2 TxIN8 (in), 3 TxIN7 (in), 4 TxIN6 (in), 5 TxIN5 (in), 6 TxIN4 (in), 7 TxIN3 (in), 8 TxIN2 (in), 9 TxIN1 (in), 10 TxIN0 (in), 11 TxCLKIN (in), 14 PRE (in), 15 PLLSEL (in), 22 ~{PD} (in), 24 BAL (in), 26 NC, 27 NC, 28 TxOUTP7 (out), 29 TxOUTM7 (out), 31 TxOUTP6 (out), 32 TxOUTM6 (out), 33 TxOUTP5 (out), 34 TxOUTM5 (out), 36 TxOUTP4 (out), 37 TxOUTM4 (out), 38 TxOUTP3 (out), 39 TxOUTM3 (out), 41 TxCLKP (out), 42 TxCLKM (out), 44 TxOUTP2 (out), 45 TxOUTM2 (out), 46 TxOUTP1 (out), 47 TxOUTM1 (out), 49 TxOUTP0 (out), 50 TxOUTM0 (out), 54 NC, 55 NC, 56 DS_OPT (in), 57 TxIN47 (in), 58 TxIN46 (in), 59 TxIN45 (in), 60 TxIN44 (in), 61 TxIN43 (in), 62 TxIN42 (in), 63 TxIN41 (in), 64 TxIN40 (in), 65 TxIN39 (in), 66 TxIN38 (in), 69 TxIN37 (in), 70 TxIN36 (in), 71 TxIN35 (in), 72 TxIN34 (in), 73 TxIN33 (in), 74 TxIN32 (in), 75 TxIN31 (in), 76 TxIN30 (in), 77 TxIN29 (in), 78 TxIN28 (in), 79 TxIN27 (in), 80 TxIN26 (in), 81 TxIN25 (in), 84 TxIN24 (in), 85 TxIN23 (in), 86 TxIN22 (in), 87 TxIN21 (in), 88 TxIN20 (in), 89 TxIN19 (in), 90 TxIN18 (in), 91 TxIN17 (in), 92 TxIN16 (in), 93 TxIN15 (in), 94 TxIN14 (in), 95 TxIN13 (in), 96 TxIN12 (in), 99 TxIN11 (in), 100 TxIN10 (in)
part B pins: 12 PLLVCC (power), 13 GND (power), 16 PLLGND (power), 17 PLLGND (power), 18 PLLVCC (power), 19 PLLGND (power), 20 VCC (power), 21 VCC (power), 23 VCC (power), 25 LVDSGND (power), 30 LVDSVCC (power), 35 LVDSGND (power), 40 LVDSVCC (power), 43 LVDSGND (power), 48 LVDSVCC (power), 51 LVDSGND (power), 52 GND (power), 53 VCC (power), 67 VCC (power), 68 GND (power), 82 VCC (power), 83 GND (power), 97 VCC (power), 98 GND (power)

## DS90CR483VJD
designator U?
48-Bit Channel Link Serializer - 33-112MHz, 100-pin TQFP; PartNumber: DS90CR483VJD; Manufacturer: National Semiconductor; PackageTopMarking: NS2ZXYYTTE#*DS90CR483VJD*BBBBB; PowerWise: N; CompType: Interface IC; Published: 4-Dec-2008; DatasheetVersion: Mar-2004; PackageVersion: revC, May-2004; PackageReference: VJD100A; Publisher: Altium Limited; PackageDescription: TQFP, Jedec, Metric, 14 x 14 x 1.0mm, 100 Lead; RoHS: N; PinCount: 100; Code_JEDEC: MS-026-AED; ComponentLink1Description: DS90CR483 Datasheet; ComponentLink1URL: http://www.national.com/ds/DS/DS90CR483.pdf; ComponentLink2Description: DS90CR483 Web Page; ComponentLink2URL: http://www.national.com/pf/DS/DS90CR483.html; ComponentLink3Description: VJD100A Package Page; ComponentLink3URL: http://www.national.com/packaging/folders/vjd100a.html
footprint VJD100A_N (Thin QFP, 100-Leads, Body 14x14mm, Pitch 0.5mm, IPC Medium Density)
footprint VJD100A_L (Thin QFP, 100-Leads, Body 14x14mm, Pitch 0.5mm, IPC High Density)
footprint VJD100A_M (Thin QFP, 100-Leads, Body 14x14mm, Pitch 0.5mm, IPC Low Density)
part A pins: 1 TxIN9 (in), 2 TxIN8 (in), 3 TxIN7 (in), 4 TxIN6 (in), 5 TxIN5 (in), 6 TxIN4 (in), 7 TxIN3 (in), 8 TxIN2 (in), 9 TxIN1 (in), 10 TxIN0 (in), 11 TxCLKIN (in), 14 PRE (in), 15 PLLSEL (in), 22 ~{PD} (in), 24 BAL (in), 26 NC, 27 NC, 28 TxOUTP7 (out), 29 TxOUTM7 (out), 31 TxOUTP6 (out), 32 TxOUTM6 (out), 33 TxOUTP5 (out), 34 TxOUTM5 (out), 36 TxOUTP4 (out), 37 TxOUTM4 (out), 38 TxOUTP3 (out), 39 TxOUTM3 (out), 41 TxCLKP (out), 42 TxCLKM (out), 44 TxOUTP2 (out), 45 TxOUTM2 (out), 46 TxOUTP1 (out), 47 TxOUTM1 (out), 49 TxOUTP0 (out), 50 TxOUTM0 (out), 54 NC, 55 NC, 56 DS_OPT (in), 57 TxIN47 (in), 58 TxIN46 (in), 59 TxIN45 (in), 60 TxIN44 (in), 61 TxIN43 (in), 62 TxIN42 (in), 63 TxIN41 (in), 64 TxIN40 (in), 65 TxIN39 (in), 66 TxIN38 (in), 69 TxIN37 (in), 70 TxIN36 (in), 71 TxIN35 (in), 72 TxIN34 (in), 73 TxIN33 (in), 74 TxIN32 (in), 75 TxIN31 (in), 76 TxIN30 (in), 77 TxIN29 (in), 78 TxIN28 (in), 79 TxIN27 (in), 80 TxIN26 (in), 81 TxIN25 (in), 84 TxIN24 (in), 85 TxIN23 (in), 86 TxIN22 (in), 87 TxIN21 (in), 88 TxIN20 (in), 89 TxIN19 (in), 90 TxIN18 (in), 91 TxIN17 (in), 92 TxIN16 (in), 93 TxIN15 (in), 94 TxIN14 (in), 95 TxIN13 (in), 96 TxIN12 (in), 99 TxIN11 (in), 100 TxIN10 (in)
part B pins: 12 PLLVCC (power), 13 GND (power), 16 PLLGND (power), 17 PLLGND (power), 18 PLLVCC (power), 19 PLLGND (power), 20 VCC (power), 21 VCC (power), 23 VCC (power), 25 LVDSGND (power), 30 LVDSVCC (power), 35 LVDSGND (power), 40 LVDSVCC (power), 43 LVDSGND (power), 48 LVDSVCC (power), 51 LVDSGND (power), 52 GND (power), 53 VCC (power), 67 VCC (power), 68 GND (power), 82 VCC (power), 83 GND (power), 97 VCC (power), 98 GND (power)

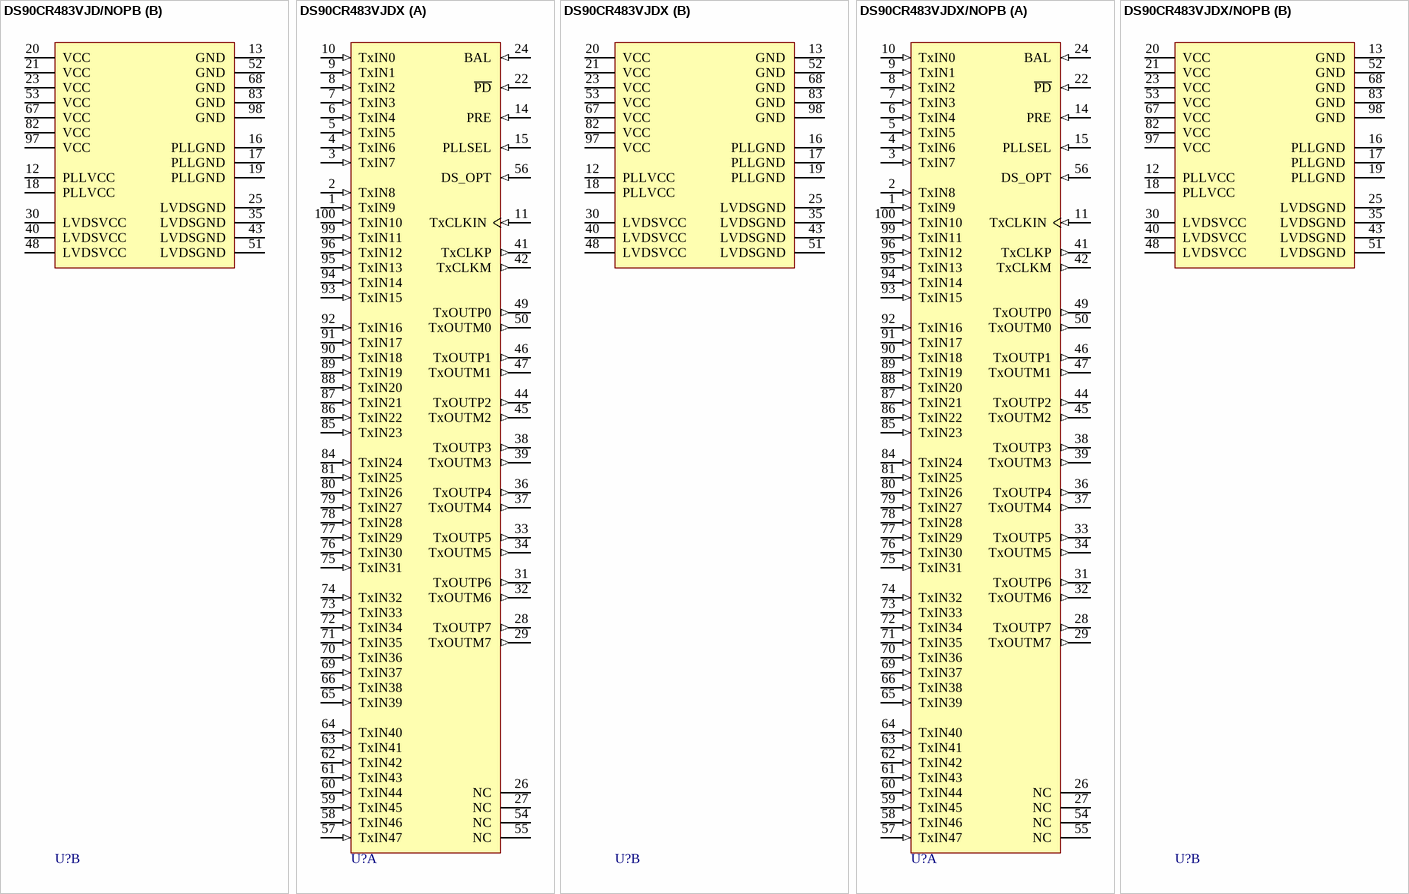
[diagram p49: symbols DS90CR483VJD/NOPB to DS90CR483VJDX/NOPB]

## DS90CR483VJD/NOPB
designator U?
48-Bit Channel Link Serializer - 33-112MHz, 100 pin TQFP; PartNumber: DS90CR483VJD/NOPB; Manufacturer: National Semiconductor; PackageTopMarking: NS2ZXYYTTE#*DS90CR483VJD*BBBBB; PowerWise: N; CompType: Interface IC; Published: 16-Nov-2010; DatasheetVersion: Mar-2004; PackageVersion: revC, May-2004; PackageReference: VJD100A; Publisher: Altium Limited; PackageDescription: TQFP, Jedec, Metric, 14 x 14 x 1.0mm, 100 Lead; Supplier 1: Digi-Key; Supplier Part Number 1: DS90CR483VJD-ND; RoHS: Y; PinCount: 100; Code_JEDEC: MS-026-AED; ComponentLink1Description: DS90CR483 Datasheet; ComponentLink1URL: http://www.national.com/ds/DS/DS90CR483.pdf; ComponentLink2Description: DS90CR483 Web Page; ComponentLink2URL: http://www.national.com/pf/DS/DS90CR483.html; ComponentLink3Description: VJD100A Package Page; ComponentLink3URL: http://www.national.com/packaging/folders/vjd100a.html
footprint VJD100A_N (Thin QFP, 100-Leads, Body 14x14mm, Pitch 0.5mm, IPC Medium Density)
footprint VJD100A_L (Thin QFP, 100-Leads, Body 14x14mm, Pitch 0.5mm, IPC High Density)
footprint VJD100A_M (Thin QFP, 100-Leads, Body 14x14mm, Pitch 0.5mm, IPC Low Density)
part A pins: 1 TxIN9 (in), 2 TxIN8 (in), 3 TxIN7 (in), 4 TxIN6 (in), 5 TxIN5 (in), 6 TxIN4 (in), 7 TxIN3 (in), 8 TxIN2 (in), 9 TxIN1 (in), 10 TxIN0 (in), 11 TxCLKIN (in), 14 PRE (in), 15 PLLSEL (in), 22 ~{PD} (in), 24 BAL (in), 26 NC, 27 NC, 28 TxOUTP7 (out), 29 TxOUTM7 (out), 31 TxOUTP6 (out), 32 TxOUTM6 (out), 33 TxOUTP5 (out), 34 TxOUTM5 (out), 36 TxOUTP4 (out), 37 TxOUTM4 (out), 38 TxOUTP3 (out), 39 TxOUTM3 (out), 41 TxCLKP (out), 42 TxCLKM (out), 44 TxOUTP2 (out), 45 TxOUTM2 (out), 46 TxOUTP1 (out), 47 TxOUTM1 (out), 49 TxOUTP0 (out), 50 TxOUTM0 (out), 54 NC, 55 NC, 56 DS_OPT (in), 57 TxIN47 (in), 58 TxIN46 (in), 59 TxIN45 (in), 60 TxIN44 (in), 61 TxIN43 (in), 62 TxIN42 (in), 63 TxIN41 (in), 64 TxIN40 (in), 65 TxIN39 (in), 66 TxIN38 (in), 69 TxIN37 (in), 70 TxIN36 (in), 71 TxIN35 (in), 72 TxIN34 (in), 73 TxIN33 (in), 74 TxIN32 (in), 75 TxIN31 (in), 76 TxIN30 (in), 77 TxIN29 (in), 78 TxIN28 (in), 79 TxIN27 (in), 80 TxIN26 (in), 81 TxIN25 (in), 84 TxIN24 (in), 85 TxIN23 (in), 86 TxIN22 (in), 87 TxIN21 (in), 88 TxIN20 (in), 89 TxIN19 (in), 90 TxIN18 (in), 91 TxIN17 (in), 92 TxIN16 (in), 93 TxIN15 (in), 94 TxIN14 (in), 95 TxIN13 (in), 96 TxIN12 (in), 99 TxIN11 (in), 100 TxIN10 (in)
part B pins: 12 PLLVCC (power), 13 GND (power), 16 PLLGND (power), 17 PLLGND (power), 18 PLLVCC (power), 19 PLLGND (power), 20 VCC (power), 21 VCC (power), 23 VCC (power), 25 LVDSGND (power), 30 LVDSVCC (power), 35 LVDSGND (power), 40 LVDSVCC (power), 43 LVDSGND (power), 48 LVDSVCC (power), 51 LVDSGND (power), 52 GND (power), 53 VCC (power), 67 VCC (power), 68 GND (power), 82 VCC (power), 83 GND (power), 97 VCC (power), 98 GND (power)

## DS90CR483VJDX
designator U?
48-Bit Channel Link Serializer - 33-112MHz, 100 pin TQFP; PartNumber: DS90CR483VJDX; Manufacturer: National Semiconductor; PackageTopMarking: NS2ZXYYTTE#*DS90CR483VJD*BBBBB; PowerWise: N; CompType: Interface IC; Published: 16-Nov-2010; DatasheetVersion: Mar-2004; PackageVersion: revC, May-2004; PackageReference: VJD100A; Publisher: Altium Limited; PackageDescription: TQFP, Jedec, Metric, 14 x 14 x 1.0mm, 100 Lead; RoHS: N; PinCount: 100; Code_JEDEC: MS-026-AED; ComponentLink1Description: DS90CR483 Datasheet; ComponentLink1URL: http://www.national.com/ds/DS/DS90CR483.pdf; ComponentLink2Description: DS90CR483 Web Page; ComponentLink2URL: http://www.national.com/pf/DS/DS90CR483.html; ComponentLink3Description: VJD100A Package Page; ComponentLink3URL: http://www.national.com/packaging/folders/vjd100a.html
footprint VJD100A_N (Thin QFP, 100-Leads, Body 14x14mm, Pitch 0.5mm, IPC Medium Density)
footprint VJD100A_L (Thin QFP, 100-Leads, Body 14x14mm, Pitch 0.5mm, IPC High Density)
footprint VJD100A_M (Thin QFP, 100-Leads, Body 14x14mm, Pitch 0.5mm, IPC Low Density)
part A pins: 1 TxIN9 (in), 2 TxIN8 (in), 3 TxIN7 (in), 4 TxIN6 (in), 5 TxIN5 (in), 6 TxIN4 (in), 7 TxIN3 (in), 8 TxIN2 (in), 9 TxIN1 (in), 10 TxIN0 (in), 11 TxCLKIN (in), 14 PRE (in), 15 PLLSEL (in), 22 ~{PD} (in), 24 BAL (in), 26 NC, 27 NC, 28 TxOUTP7 (out), 29 TxOUTM7 (out), 31 TxOUTP6 (out), 32 TxOUTM6 (out), 33 TxOUTP5 (out), 34 TxOUTM5 (out), 36 TxOUTP4 (out), 37 TxOUTM4 (out), 38 TxOUTP3 (out), 39 TxOUTM3 (out), 41 TxCLKP (out), 42 TxCLKM (out), 44 TxOUTP2 (out), 45 TxOUTM2 (out), 46 TxOUTP1 (out), 47 TxOUTM1 (out), 49 TxOUTP0 (out), 50 TxOUTM0 (out), 54 NC, 55 NC, 56 DS_OPT (in), 57 TxIN47 (in), 58 TxIN46 (in), 59 TxIN45 (in), 60 TxIN44 (in), 61 TxIN43 (in), 62 TxIN42 (in), 63 TxIN41 (in), 64 TxIN40 (in), 65 TxIN39 (in), 66 TxIN38 (in), 69 TxIN37 (in), 70 TxIN36 (in), 71 TxIN35 (in), 72 TxIN34 (in), 73 TxIN33 (in), 74 TxIN32 (in), 75 TxIN31 (in), 76 TxIN30 (in), 77 TxIN29 (in), 78 TxIN28 (in), 79 TxIN27 (in), 80 TxIN26 (in), 81 TxIN25 (in), 84 TxIN24 (in), 85 TxIN23 (in), 86 TxIN22 (in), 87 TxIN21 (in), 88 TxIN20 (in), 89 TxIN19 (in), 90 TxIN18 (in), 91 TxIN17 (in), 92 TxIN16 (in), 93 TxIN15 (in), 94 TxIN14 (in), 95 TxIN13 (in), 96 TxIN12 (in), 99 TxIN11 (in), 100 TxIN10 (in)
part B pins: 12 PLLVCC (power), 13 GND (power), 16 PLLGND (power), 17 PLLGND (power), 18 PLLVCC (power), 19 PLLGND (power), 20 VCC (power), 21 VCC (power), 23 VCC (power), 25 LVDSGND (power), 30 LVDSVCC (power), 35 LVDSGND (power), 40 LVDSVCC (power), 43 LVDSGND (power), 48 LVDSVCC (power), 51 LVDSGND (power), 52 GND (power), 53 VCC (power), 67 VCC (power), 68 GND (power), 82 VCC (power), 83 GND (power), 97 VCC (power), 98 GND (power)

## DS90CR483VJDX/NOPB
designator U?
48-Bit Channel Link Serializer - 33-112MHz, 100 pin TQFP; PartNumber: DS90CR483VJDX/NOPB; Manufacturer: National Semiconductor; PackageTopMarking: NS2ZXYYTTE#*DS90CR483VJD*BBBBB; PowerWise: N; CompType: Interface IC; Published: 16-Nov-2010; DatasheetVersion: Mar-2004; PackageVersion: revC, May-2004; PackageReference: VJD100A; Publisher: Altium Limited; PackageDescription: TQFP, Jedec, Metric, 14 x 14 x 1.0mm, 100 Lead; Supplier 1: Digi-Key; Supplier Part Number 1: DS90CR483VJDX-ND; RoHS: Y; PinCount: 100; Code_JEDEC: MS-026-AED; ComponentLink1Description: DS90CR483 Datasheet; ComponentLink1URL: http://www.national.com/ds/DS/DS90CR483.pdf; ComponentLink2Description: DS90CR483 Web Page; ComponentLink2URL: http://www.national.com/pf/DS/DS90CR483.html; ComponentLink3Description: VJD100A Package Page; ComponentLink3URL: http://www.national.com/packaging/folders/vjd100a.html
footprint VJD100A_N (Thin QFP, 100-Leads, Body 14x14mm, Pitch 0.5mm, IPC Medium Density)
footprint VJD100A_L (Thin QFP, 100-Leads, Body 14x14mm, Pitch 0.5mm, IPC High Density)
footprint VJD100A_M (Thin QFP, 100-Leads, Body 14x14mm, Pitch 0.5mm, IPC Low Density)
part A pins: 1 TxIN9 (in), 2 TxIN8 (in), 3 TxIN7 (in), 4 TxIN6 (in), 5 TxIN5 (in), 6 TxIN4 (in), 7 TxIN3 (in), 8 TxIN2 (in), 9 TxIN1 (in), 10 TxIN0 (in), 11 TxCLKIN (in), 14 PRE (in), 15 PLLSEL (in), 22 ~{PD} (in), 24 BAL (in), 26 NC, 27 NC, 28 TxOUTP7 (out), 29 TxOUTM7 (out), 31 TxOUTP6 (out), 32 TxOUTM6 (out), 33 TxOUTP5 (out), 34 TxOUTM5 (out), 36 TxOUTP4 (out), 37 TxOUTM4 (out), 38 TxOUTP3 (out), 39 TxOUTM3 (out), 41 TxCLKP (out), 42 TxCLKM (out), 44 TxOUTP2 (out), 45 TxOUTM2 (out), 46 TxOUTP1 (out), 47 TxOUTM1 (out), 49 TxOUTP0 (out), 50 TxOUTM0 (out), 54 NC, 55 NC, 56 DS_OPT (in), 57 TxIN47 (in), 58 TxIN46 (in), 59 TxIN45 (in), 60 TxIN44 (in), 61 TxIN43 (in), 62 TxIN42 (in), 63 TxIN41 (in), 64 TxIN40 (in), 65 TxIN39 (in), 66 TxIN38 (in), 69 TxIN37 (in), 70 TxIN36 (in), 71 TxIN35 (in), 72 TxIN34 (in), 73 TxIN33 (in), 74 TxIN32 (in), 75 TxIN31 (in), 76 TxIN30 (in), 77 TxIN29 (in), 78 TxIN28 (in), 79 TxIN27 (in), 80 TxIN26 (in), 81 TxIN25 (in), 84 TxIN24 (in), 85 TxIN23 (in), 86 TxIN22 (in), 87 TxIN21 (in), 88 TxIN20 (in), 89 TxIN19 (in), 90 TxIN18 (in), 91 TxIN17 (in), 92 TxIN16 (in), 93 TxIN15 (in), 94 TxIN14 (in), 95 TxIN13 (in), 96 TxIN12 (in), 99 TxIN11 (in), 100 TxIN10 (in)
part B pins: 12 PLLVCC (power), 13 GND (power), 16 PLLGND (power), 17 PLLGND (power), 18 PLLVCC (power), 19 PLLGND (power), 20 VCC (power), 21 VCC (power), 23 VCC (power), 25 LVDSGND (power), 30 LVDSVCC (power), 35 LVDSGND (power), 40 LVDSVCC (power), 43 LVDSGND (power), 48 LVDSVCC (power), 51 LVDSGND (power), 52 GND (power), 53 VCC (power), 67 VCC (power), 68 GND (power), 82 VCC (power), 83 GND (power), 97 VCC (power), 98 GND (power)

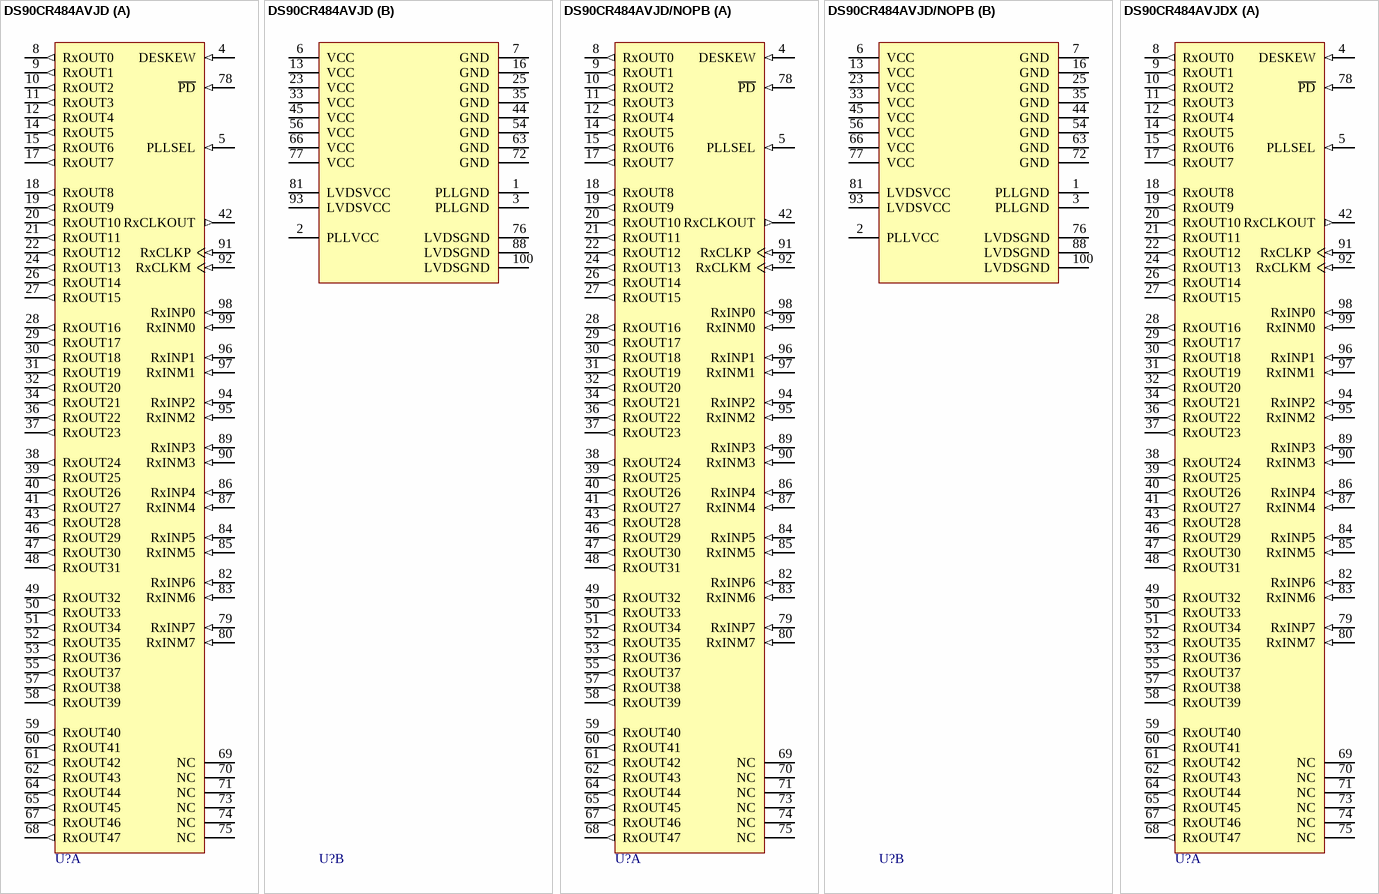
[diagram p50: symbols DS90CR484AVJD to DS90CR484AVJDX]

## DS90CR484AVJD
designator U?
48-Bit LVDS Channel Link SER/DES - 33 - 112 MHz, 100-pin TQFP; PartNumber: DS90CR484AVJD; Manufacturer: National Semiconductor; PackageTopMarking: NS2ZXYYTT*DS90CR484AVJD*BBBBB; PowerWise: N; CompType: Interface IC; Published: 4-Dec-2008; DatasheetVersion: Apr-2008; PackageVersion: revC, May-2004; PackageReference: VJD100A; Publisher: Altium Limited; PackageDescription: TQFP, Jedec, Metric, 14 x 14 x 1.0mm, 100 Lead; Supplier 1: Farnell; Supplier Part Number 1: 1609182; RoHS: Y; PinCount: 100; Code_JEDEC: MS-026-AED; ComponentLink1Description: DS90CR484A Datasheet; ComponentLink1URL: http://www.national.com/ds/DS/DS90CR484A.pdf; ComponentLink2Description: DS90CR484A Web Page; ComponentLink2URL: http://www.national.com/pf/DS/DS90CR484A.html; ComponentLink3Description: VJD100A Package Page; ComponentLink3URL: http://www.national.com/packaging/folders/vjd100a.html
footprint VJD100A_N (Thin QFP, 100-Leads, Body 14x14mm, Pitch 0.5mm, IPC Medium Density)
footprint VJD100A_L (Thin QFP, 100-Leads, Body 14x14mm, Pitch 0.5mm, IPC High Density)
footprint VJD100A_M (Thin QFP, 100-Leads, Body 14x14mm, Pitch 0.5mm, IPC Low Density)
part A pins: 4 DESKEW (in), 5 PLLSEL (in), 8 RxOUT0 (out), 9 RxOUT1 (out), 10 RxOUT2 (out), 11 RxOUT3 (out), 12 RxOUT4 (out), 14 RxOUT5 (out), 15 RxOUT6 (out), 17 RxOUT7 (out), 18 RxOUT8 (out), 19 RxOUT9 (out), 20 RxOUT10 (out), 21 RxOUT11 (out), 22 RxOUT12 (out), 24 RxOUT13 (out), 26 RxOUT14 (out), 27 RxOUT15 (out), 28 RxOUT16 (out), 29 RxOUT17 (out), 30 RxOUT18 (out), 31 RxOUT19 (out), 32 RxOUT20 (out), 34 RxOUT21 (out), 36 RxOUT22 (out), 37 RxOUT23 (out), 38 RxOUT24 (out), 39 RxOUT25 (out), 40 RxOUT26 (out), 41 RxOUT27 (out), 42 RxCLKOUT (out), 43 RxOUT28 (out), 46 RxOUT29 (out), 47 RxOUT30 (out), 48 RxOUT31 (out), 49 RxOUT32 (out), 50 RxOUT33 (out), 51 RxOUT34 (out), 52 RxOUT35 (out), 53 RxOUT36 (out), 55 RxOUT37 (out), 57 RxOUT38 (out), 58 RxOUT39 (out), 59 RxOUT40 (out), 60 RxOUT41 (out), 61 RxOUT42 (out), 62 RxOUT43 (out), 64 RxOUT44 (out), 65 RxOUT45 (out), 67 RxOUT46 (out), 68 RxOUT47 (out), 69 NC, 70 NC, 71 NC, 73 NC, 74 NC, 75 NC, 78 ~{PD} (in), 79 RxINP7 (in), 80 RxINM7 (in), 82 RxINP6 (in), 83 RxINM6 (in), 84 RxINP5 (in), 85 RxINM5 (in), 86 RxINP4 (in), 87 RxINM4 (in), 89 RxINP3 (in), 90 RxINM3 (in), 91 RxCLKP (in), 92 RxCLKM (in), 94 RxINP2 (in), 95 RxINM2 (in), 96 RxINP1 (in), 97 RxINM1 (in), 98 RxINP0 (in), 99 RxINM0 (in)
part B pins: 1 PLLGND (power), 2 PLLVCC (power), 3 PLLGND (power), 6 VCC (power), 7 GND (power), 13 VCC (power), 16 GND (power), 23 VCC (power), 25 GND (power), 33 VCC (power), 35 GND (power), 44 GND (power), 45 VCC (power), 54 GND (power), 56 VCC (power), 63 GND (power), 66 VCC (power), 72 GND (power), 76 LVDSGND (power), 77 VCC (power), 81 LVDSVCC (power), 88 LVDSGND (power), 93 LVDSVCC (power), 100 LVDSGND (power)